# EAGLE library part TI_LM4881M/NOPB-ND (library john_mamish_amplifier_library)
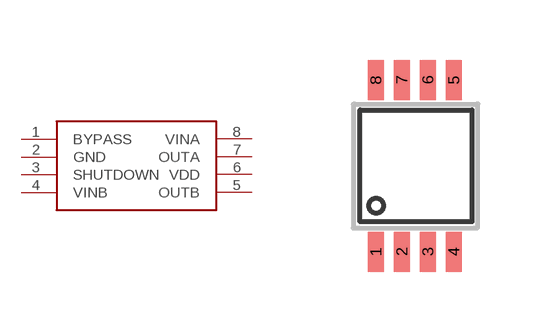
[diagram p0: symbol with the pads of TI_DGK0008A; footprint TI_DGK0008A]

Designator prefix -

## TI_LM4881M/NOPB-ND  [TI_DGK0008A]
1  BYPASS
2  GND
3  SHUTDOWN
4  VINB
5  OUTB
6  VDD
7  OUTA
8  VINA

## Footprint TI_DGK0008A (pad centres in mm)
smd 0.4 x 1: 1 0,-4.3; 2 0.65,-4.3; 3 1.3,-4.3; 4 1.95,-4.3; 5 1.95,0; 6 1.3,0; 7 0.65,0; 8 0,0